# Altium schematic symbol library IR HEXFET N.Schlib: 1 symbol
Pins are listed as number, name and electrical type; pins without a type are passive.

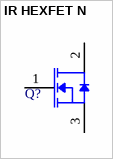
[diagram p0: symbol IR HEXFET N]

## IR HEXFET N
designator Q?
pins: 1 GATE, 2 DRAIN, 3 SOURCE